# Altium schematic symbol library Ferrites.SchLib: 2 symbols
Pins are listed as number, name and electrical type; pins without a type are passive.

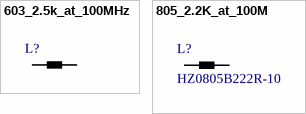
[diagram p0: symbols 603_2.5k_at_100MHz to 805_2.2K_at_100M]

## 603_2.5k_at_100MHz
designator L?, comment 2.5k@100MHz  (value not drawn)
603, 200mA, 2.5k@100MHz; Supplier 1: Farnell; Supplier Part Number 1: 1669684
footprint 603 Inductor
pins: 1 1-00, 2

## 805_2.2K_at_100M
designator L?, comment HZ0805B222R-10
200mA, 2.2K at 100MHz; Supplier 1: Farnell; Supplier Part Number 1: 2292407
footprint 805_INDUCTOR
pins: 1, 2